# EAGLE library part 62403821722 (library WR-WTB)
WR-WTB 2.00 mm Male Dual Row Horizontal Shrouded Header w. positive locking Material Properties Insulator Material PBT Insulator Flammability Rating UL94 V-0 Color White Contact Material Copper Alloy Contact Plating Tin Contact Type Stamped Certification UL Approval E323964 General Information Operating Temperature -25 °C up to +85 °C Compliance RoHS IR 3 A Working Voltage 250 V (AC) Withstanding Voltage 1000 V (AC) Contact Resistance 20 mΩ RISO 1000 MΩ Pitch 2 mm Gender Male Type Horizontal Packaging Properties Packaging Tube <https://www.we-online.com/components/media/o33359v209%20Family_WR-WTB_6240xx21722.jpg> Details see: www.we-online.com/en/components/products/WTB_2_00_MALE_DUAL_ROW_HORIZONTAL_SHROUDED_HEADER_W_POSITIVE_LOCKING_6240XX21722 <www.we-online.com/catalog/WTB_2_00_MALE_DUAL_ROW_HORIZONTAL_SHROUDED_HEADER_W_POSITIVE_LOCKING_6240XX21722/?utm_source=eagle_model&utm_medium=description_link&utm_campaign=eisos_eagle> Updated by Ella 2025-03-06 2025 (C) Würth Elektronik
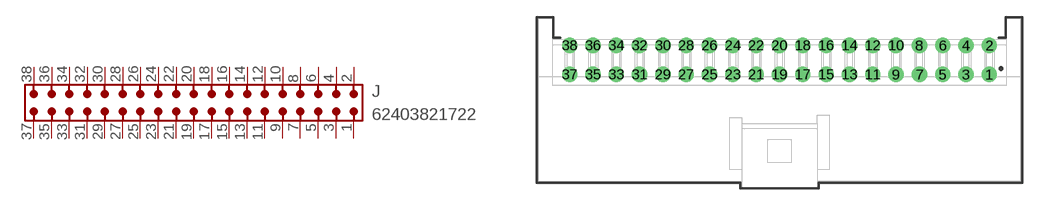
[diagram p24: symbol with the pads of 62403821722; footprint 62403821722]

Designator prefix J

## 62403821722 (CONTACT-RESISTANCE: 20mOhm; DATASHEET-URL: https://www.we-online.com/redexpert/spec/62403821722?ae; GENDER: Male; IR: 3A; L: 41.4mm; MOUNT: THT; PACKAGING: Tube; PART-NUMBER: 62403821722; PCB-CABLE-PANEL: PCB; PINS: 38; PITCH: 2mm; TYPE: Horizontal; VALUE: 62403821722; WORKING-VOLTAGE: 250V(AC))  [62403821722]
1  1  pas
2  2  pas
3  3  pas
4  4  pas
5  5  pas
6  6  pas
7  7  pas
8  8  pas
9  9  pas
10  10  pas
11  11  pas
12  12  pas
13  13  pas
14  14  pas
15  15  pas
16  16  pas
17  17  pas
18  18  pas
19  19  pas
20  20  pas
21  21  pas
22  22  pas
23  23  pas
24  24  pas
25  25  pas
26  26  pas
27  27  pas
28  28  pas
29  29  pas
30  30  pas
31  31  pas
32  32  pas
33  33  pas
34  34  pas
35  35  pas
36  36  pas
37  37  pas
38  38  pas

## Footprint 62403821722 (pad centres in mm)
WR-WTB 2.00 mm Male Dual Row Horizontal Shrouded Header w. positive locking, 38 pins
drill 0.8: 1 18,2.2; 2 18,4.7; 3 16,2.2; 4 16,4.7; 5 14,2.2; 6 14,4.7; 7 12,2.2; 8 12,4.7; 9 10,2.2; 10 10,4.7; 11 8,2.2; 12 8,4.7; 13 6,2.2; 14 6,4.7; 15 4,2.2; 16 4,4.7; 17 2,2.2; 18 2,4.7; 19 0,2.2; 20 0,4.7; 21 -2,2.2; 22 -2,4.7; 23 -4,2.2; 24 -4,4.7; 25 -6,2.2; 26 -6,4.7; 27 -8,2.2; 28 -8,4.7; 29 -10,2.2; 30 -10,4.7; 31 -12,2.2; 32 -12,4.7; 33 -14,2.2; 34 -14,4.7; 35 -16,2.2; 36 -16,4.7; 37 -18,2.2; 38 -18,4.7